# EAGLE library part 618009233721 (library Wurth_Elektronik_Electromechanic_Input-Output_Connectors_rev15c)
WR-DSUB 10.3mm Male Angled PCB Connector without Hex Screw, 9 pins=>Code : Con_I-O_DSUB_PCB_Male_wo-screw_618009233721 <http://katalog.we-online.de/media/images/eican/Con_I-O_DSUB_PCB_Male_wo-screw_6180xx233721_pf2.jpg> Details see: http://katalog.we-online.de/en/em/618_0xx_233_721 Created 2014-07-10, Karrer Zheng 2014 (C) Würth Elektronik
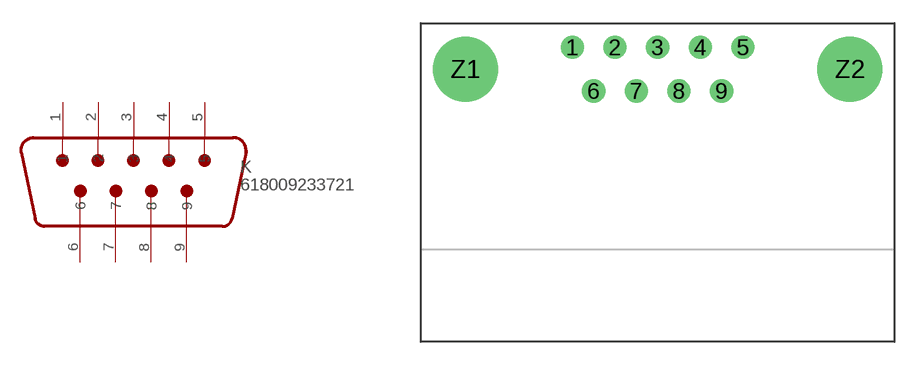
[diagram p28: symbol with the pads of 618009233721; footprint 618009233721]

Designator prefix K

## 618009233721  [618009233721]
1  1
2  2
3  3
4  4
5  5
6  6
7  7
8  8
9  9

## Footprint 618009233721 (pad centres in mm)
WR-DSUB 10.3mm Male Angled PCB Connector without Hex Screw, 9 pins
drill 1: 1 -5.54,1.42; 2 -2.77,1.42; 3 0,1.42; 4 2.77,1.42; 5 5.54,1.42; 6 -4.155,-1.42; 7 -1.385,-1.42; 8 1.385,-1.42; 9 4.155,-1.42
drill 3.2: Z1 -12.5,0; Z2 12.5,0